# EAGLE library part CD4022BPWR (library ZOMGTHEREMINBBQLOL)
TI CD4022BPWR Counter Shift Register Octal Divider
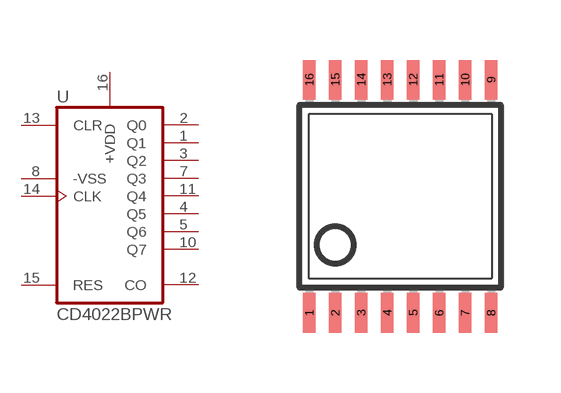
[diagram p5: symbol with the pads of TSSOP16; footprint TSSOP16]

Designator prefix -

## CD4022BPWR  [TSSOP16]
1  Q1  out
2  Q0  out
3  Q2  out
4  Q5  out
5  Q6  out
7  Q3  out
8  -VSS  pwr
10  Q7  out
11  Q4  out
12  CO  out
13  CLR  in
14  CLK  in
15  RES  in
16  +VDD  pwr

## Footprint TSSOP16 (pad centres in mm)
smd 0.305 x 0.991: 1 -2.275,-2.918; 2 -1.625,-2.918; 3 -0.975,-2.918; 4 -0.325,-2.918; 5 0.325,-2.918; 6 0.975,-2.918; 7 1.625,-2.918; 8 2.275,-2.918; 9 2.275,2.918; 10 1.625,2.918; 11 0.975,2.918; 12 0.325,2.918; 13 -0.325,2.918; 14 -0.975,2.918; 15 -1.625,2.918; 16 -2.275,2.918